# Altium schematic symbol library Flash.SchLib: 1 symbol
Pins are listed as number, name and electrical type; pins without a type are passive.

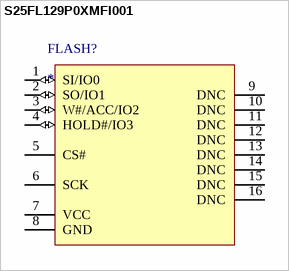
[diagram p0: symbol S25FL129P0XMFI001]

## S25FL129P0XMFI001
designator FLASH?
footprint SOIC-16-FLASH (SOIC, 16-Leads, Body 10.30x7.50mm, Pitch 1.27mm, IPC Medium Density); pin to pad 1>15 2>8 3>9 4>1 5>7 6>16 7>2 8>10 9>3 10>4 11>5 12>6 13>11 14>12 15>13 16>14
pins: 1 SI/IO0 (io), 2 SO/IO1 (io), 3 W#/ACC/IO2 (io), 4 HOLD#/IO3 (io), 5 CS#, 6 SCK, 7 VCC, 8 GND, 9 DNC, 10 DNC, 11 DNC, 12 DNC, 13 DNC, 14 DNC, 15 DNC, 16 DNC